# EAGLE library part BBH_P8 (library logic-supply)
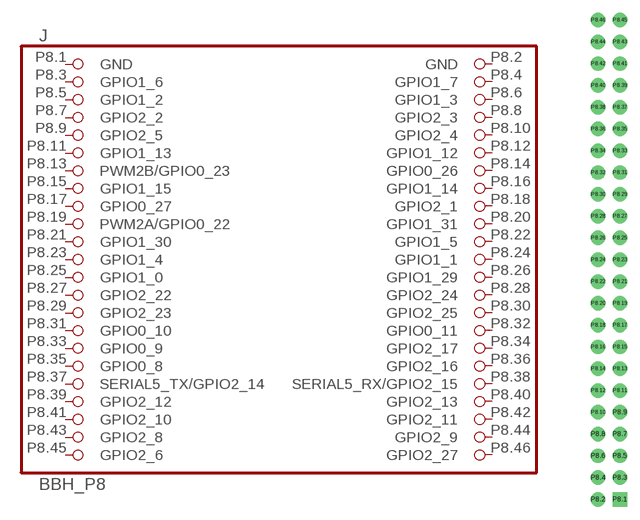
[diagram p14: symbol with the pads of 2X23; footprint 2X23]

Designator prefix J

## BBH_P8  [2X23]
P8.1  GND  pwr
P8.2  GND  pwr
P8.3  GPIO1_6
P8.4  GPIO1_7
P8.5  GPIO1_2
P8.6  GPIO1_3
P8.7  GPIO2_2
P8.8  GPIO2_3
P8.9  GPIO2_5
P8.10  GPIO2_4
P8.11  GPIO1_13
P8.12  GPIO1_12
P8.13  PWM2B/GPIO0_23
P8.14  GPIO0_26
P8.15  GPIO1_15
P8.16  GPIO1_14
P8.17  GPIO0_27
P8.18  GPIO2_1
P8.19  PWM2A/GPIO0_22
P8.20  GPIO1_31
P8.21  GPIO1_30
P8.22  GPIO1_5
P8.23  GPIO1_4
P8.24  GPIO1_1
P8.25  GPIO1_0
P8.26  GPIO1_29
P8.27  GPIO2_22
P8.28  GPIO2_24
P8.29  GPIO2_23
P8.30  GPIO2_25
P8.31  GPIO0_10
P8.32  GPIO0_11
P8.33  GPIO0_9
P8.34  GPIO2_17
P8.35  GPIO0_8
P8.36  GPIO2_16
P8.37  SERIAL5_TX/GPIO2_14
P8.38  SERIAL5_RX/GPIO2_15
P8.39  GPIO2_12
P8.40  GPIO2_13
P8.41  GPIO2_10
P8.42  GPIO2_11
P8.43  GPIO2_8
P8.44  GPIO2_9
P8.45  GPIO2_6
P8.46  GPIO2_27

## Footprint 2X23 (pad centres in mm)
drill 1 pad 1.676 square: P8.1 0,0
drill 1 pad 1.676: P8.2 -2.54,0; P8.3 0,2.54; P8.4 -2.54,2.54; P8.5 0,5.08; P8.6 -2.54,5.08; P8.7 0,7.62; P8.8 -2.54,7.62; P8.9 0,10.16; P8.10 -2.54,10.16; P8.11 0,12.7; P8.12 -2.54,12.7; P8.13 0,15.24; P8.14 -2.54,15.24; P8.15 0,17.78; P8.16 -2.54,17.78; P8.17 0,20.32; P8.18 -2.54,20.32; P8.19 0,22.86; P8.20 -2.54,22.86; P8.21 0,25.4; P8.22 -2.54,25.4; P8.23 0,27.94; P8.24 -2.54,27.94; P8.25 0,30.48; P8.26 -2.54,30.48; P8.27 0,33.02; P8.28 -2.54,33.02; P8.29 0,35.56; P8.30 -2.54,35.56; P8.31 0,38.1; P8.32 -2.54,38.1; P8.33 0,40.64; P8.34 -2.54,40.64; P8.35 0,43.18; P8.36 -2.54,43.18; P8.37 0,45.72; P8.38 -2.54,45.72; P8.39 0,48.26; P8.40 -2.54,48.26; P8.41 0,50.8; P8.42 -2.54,50.8; P8.43 0,53.34; P8.44 -2.54,53.34; P8.45 0,55.88; P8.46 -2.54,55.88